# Altium schematic symbol library Headers.SchLib: 21 symbols
Pins are listed as number, name and electrical type; pins without a type are passive.

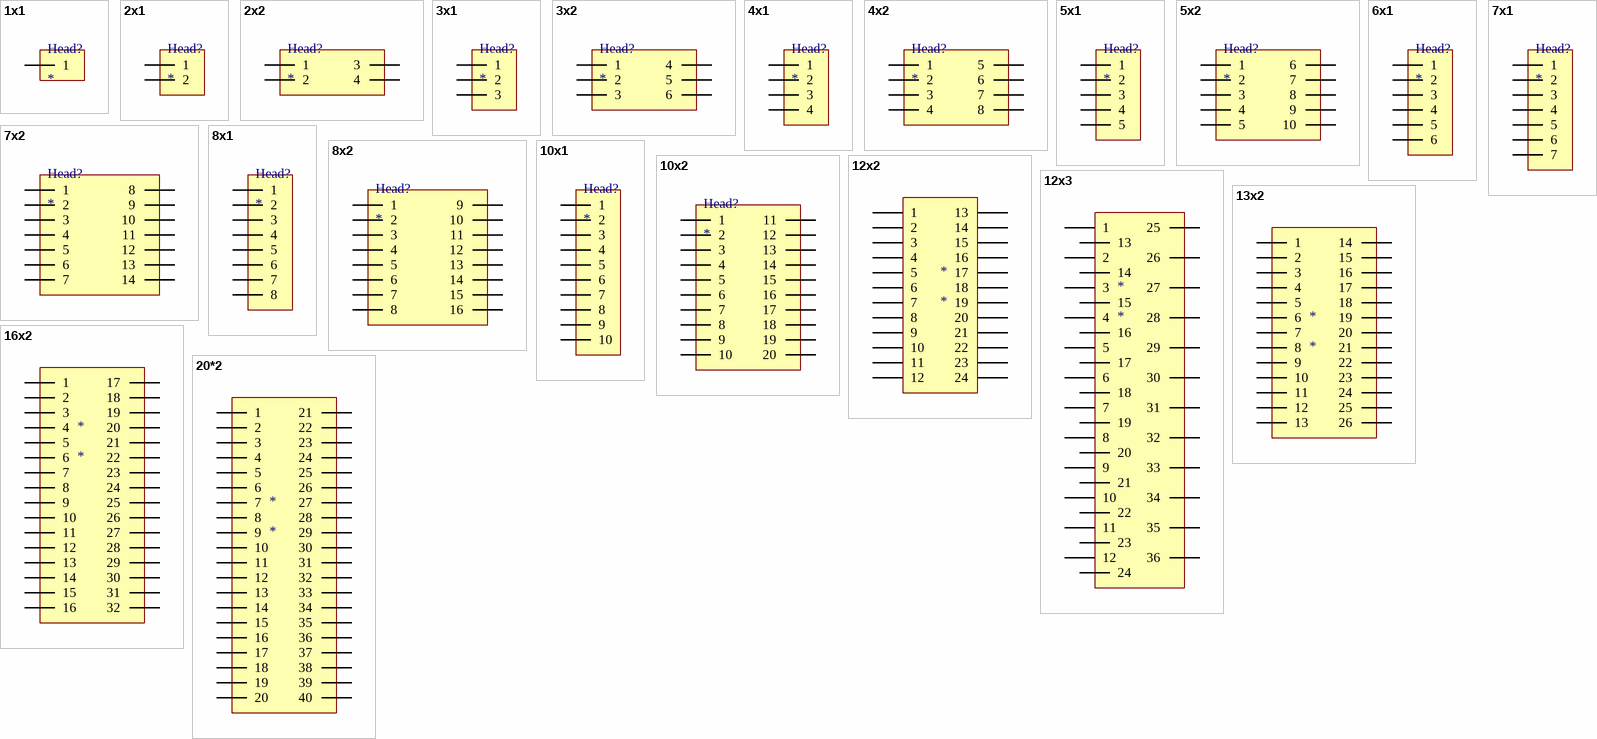
[diagram p0: symbols 1x1 to 20*2]

## 1x1
designator Head?
1x1 100mil Header
footprint Male 1x1
pins: 1

## 2x1
designator Head?
2x1 100mil Header
footprint Male 2X1
pins: 1, 2

## 2x2
designator Head?
2x2 100mil Header
footprint Male 2x2
pins: 1, 2, 3, 4

## 3x1
designator Head?
3x1 100mil Header
footprint Male 3x1
footprint MALE 3x1 W SNAP CLICK
pins: 1, 2, 3

## 3x2
designator Head?
3x2 100mil Header
footprint FEMALE 3x2
footprint Male 3x2
pins: 1, 2, 3, 4, 5, 6

## 4x1
designator Head?
4x1 100mil Header
footprint Male 4x1
pins: 1, 2, 3, 4

## 4x2
designator Head?
4x2 100mil Header
footprint FEMALE 4x2
footprint Male 4x2
footprint FEMALE 4x2 RIGHT ANGLE
pins: 1, 2, 3, 4, 5, 6, 7, 8

## 5x1
designator Head?
5x1 100mil Header
footprint 5x1 (Footprint not found)
pins: 1, 2, 3, 4, 5

## 5x2
designator Head?
5x2 100mil Header
footprint Male 5x2
pins: 1, 2, 3, 4, 5, 6, 7, 8, 9, 10

## 6x1
designator Head?
6x1 100mil Header
footprint 6x1 (Footprint not found)
pins: 1, 2, 3, 4, 5, 6

## 7x1
designator Head?
7x1 100mil Header
footprint 7x1 (Footprint not found)
pins: 1, 2, 3, 4, 5, 6, 7

## 7x2
designator Head?
7x2 100mil Header
footprint 7x2 (Footprint not found)
pins: 1, 2, 3, 4, 5, 6, 7, 8, 9, 10, 11, 12, 13, 14

## 8x1
designator Head?
8x1 100mil Header
footprint 8x1 (Footprint not found)
pins: 1, 2, 3, 4, 5, 6, 7, 8

## 8x2
designator Head?
8x2 100mil Header
footprint Male 8x2
footprint FEMALE 8x2 - RIGHT ANGLE
pins: 1, 2, 3, 4, 5, 6, 7, 8, 9, 10, 11, 12, 13, 14, 15, 16

## 10x1
designator Head?
10x1 100mil Header
footprint 10x1 (Footprint not found)
pins: 1, 2, 3, 4, 5, 6, 7, 8, 9, 10

## 10x2
designator Head?
10x2 100mil Header
footprint 10x2 (Footprint not found)
pins: 1, 2, 3, 4, 5, 6, 7, 8, 9, 10, 11, 12, 13, 14, 15, 16, 17, 18, 19, 20

## 12x2
designator *
12x2 100mil Header
footprint MALE 12x2
pins: 1, 2, 3, 4, 5, 6, 7, 8, 9, 10, 11, 12, 13, 14, 15, 16, 17, 18, 19, 20, 21, 22, 23, 24

## 12x3
designator *
12x3 100mil Header
footprint MALE 12x3
pins: 1, 2, 3, 4, 5, 6, 7, 8, 9, 10, 11, 12, 13, 14, 15, 16, 17, 18, 19, 20, 21, 22, 23, 24, 25, 26, 27, 28, 29, 30, 31, 32, 33, 34, 35, 36

## 13x2
designator *
13x2 100mil Header
footprint MALE 13x2
pins: 1, 2, 3, 4, 5, 6, 7, 8, 9, 10, 11, 12, 13, 14, 15, 16, 17, 18, 19, 20, 21, 22, 23, 24, 25, 26

## 16x2
designator *
16x2 100mil Header
footprint MALE 16x2
footprint FEMALE 16X2
footprint FEMALE 16X2 - Right Angle
pins: 1, 2, 3, 4, 5, 6, 7, 8, 9, 10, 11, 12, 13, 14, 15, 16, 17, 18, 19, 20, 21, 22, 23, 24, 25, 26, 27, 28, 29, 30, 31, 32

## 20*2
designator *
20x2 100mil Header
footprint FEMALE 20x2 - Right Angle
footprint FEMALE 20x2
footprint MALE 20x2
footprint FEMALE 20x2 - Beobot
pins: 1, 2, 3, 4, 5, 6, 7, 8, 9, 10, 11, 12, 13, 14, 15, 16, 17, 18, 19, 20, 21, 22, 23, 24, 25, 26, 27, 28, 29, 30, 31, 32, 33, 34, 35, 36, 37, 38, 39, 40